# Altium schematic symbol library TEP-AltiumLib-Modules.SCHLIB: 6 symbols
Pins are listed as number, name and electrical type; pins without a type are passive.

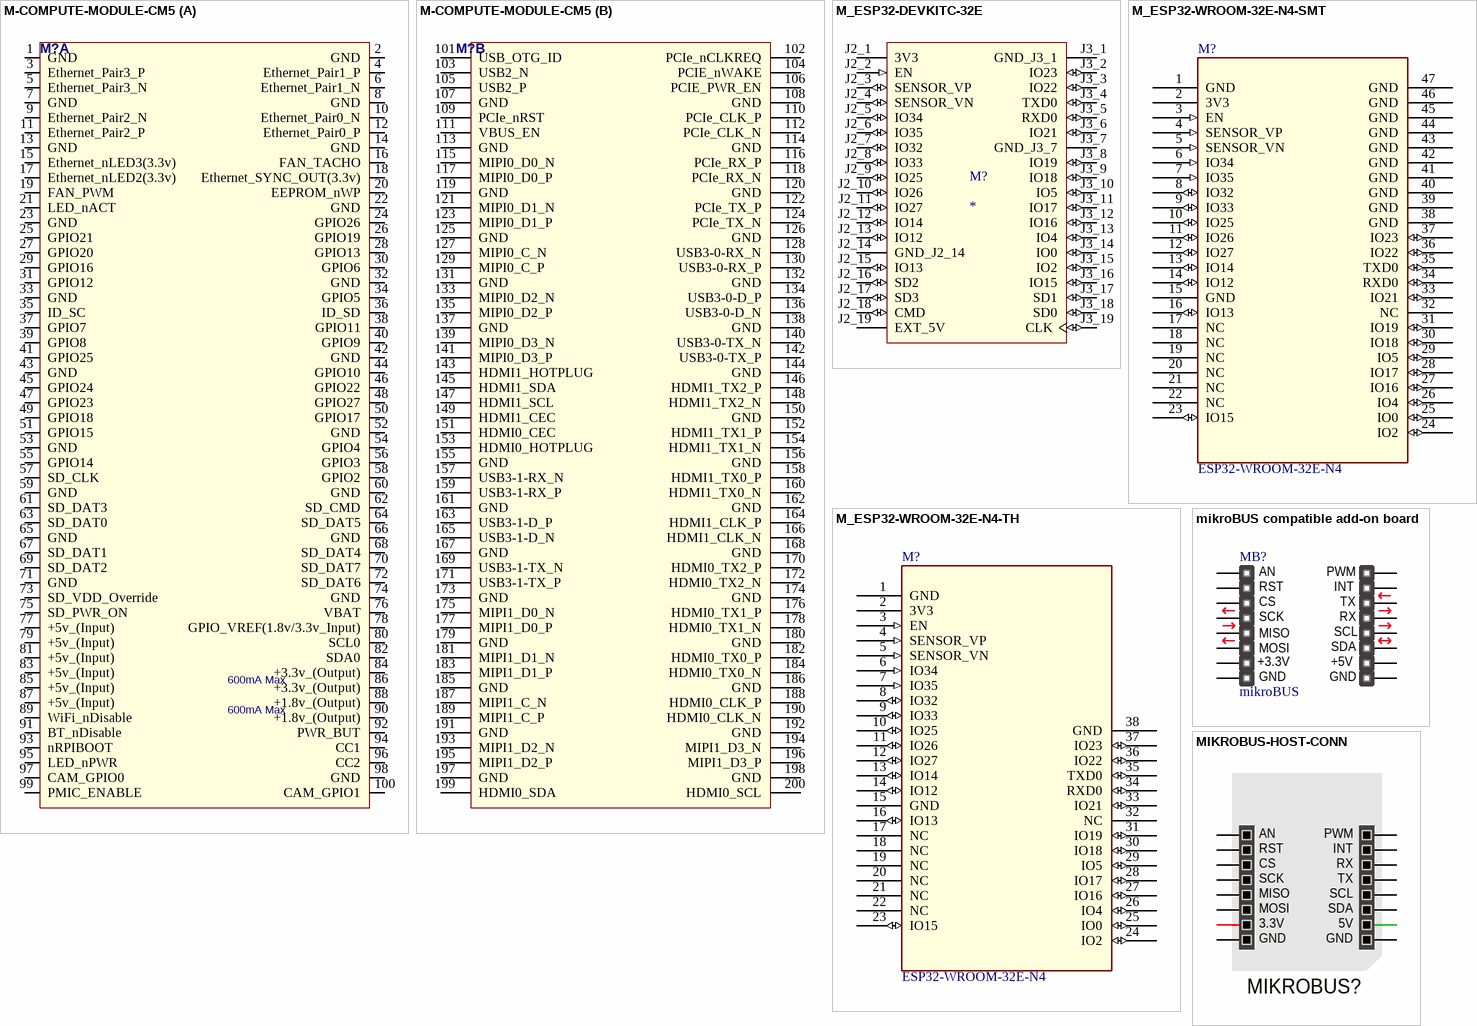
[diagram p0: symbols M-COMPUTE-MODULE-CM5 to MIKROBUS-HOST-CONN]

## M-COMPUTE-MODULE-CM5
designator M?, comment 10164227-1001A1RLF  (value not drawn)
ComputeModule5-CM5; Manufacturer 1: Amphenol; Manufacturer Part Number 1: 10164227-1001A1RLF; Manufacturer 2: Hirose; Manufacturer Part Number 2: DF40C-100DP-0.4V(58); Mounting Technology: SMT; Supplier 1: Digikey; Supplier Part Number 1: 609-10164227-1001A1RLFCT-ND
footprint Raspberry-Pi-5-Compute-Module
part A pins: 1 GND, 2 GND, 3 Ethernet_Pair3_P, 4 Ethernet_Pair1_P, 5 Ethernet_Pair3_N, 6 Ethernet_Pair1_N, 7 GND, 8 GND, 9 Ethernet_Pair2_N, 10 Ethernet_Pair0_N, 11 Ethernet_Pair2_P, 12 Ethernet_Pair0_P, 13 GND, 14 GND, 15 Ethernet_nLED3(3.3v), 16 FAN_TACHO, 17 Ethernet_nLED2(3.3v), 18 Ethernet_SYNC_OUT(3.3v), 19 FAN_PWM, 20 EEPROM_nWP, 21 LED_nACT, 22 GND, 23 GND, 24 GPIO26, 25 GPIO21, 26 GPIO19, 27 GPIO20, 28 GPIO13, 29 GPIO16, 30 GPIO6, 31 GPIO12, 32 GND, 33 GND, 34 GPIO5, 35 ID_SC, 36 ID_SD, 37 GPIO7, 38 GPIO11, 39 GPIO8, 40 GPIO9, 41 GPIO25, 42 GND, 43 GND, 44 GPIO10, 45 GPIO24, 46 GPIO22, 47 GPIO23, 48 GPIO27, 49 GPIO18, 50 GPIO17, 51 GPIO15, 52 GND, 53 GND, 54 GPIO4, 55 GPIO14, 56 GPIO3, 57 SD_CLK, 58 GPIO2, 59 GND, 60 GND, 61 SD_DAT3, 62 SD_CMD, 63 SD_DAT0, 64 SD_DAT5, 65 GND, 66 GND, 67 SD_DAT1, 68 SD_DAT4, 69 SD_DAT2, 70 SD_DAT7, 71 GND, 72 SD_DAT6, 73 SD_VDD_Override, 74 GND, 75 SD_PWR_ON, 76 VBAT, 77 +5v_(Input), 78 GPIO_VREF(1.8v/3.3v_Input), 79 +5v_(Input), 80 SCL0, 81 +5v_(Input), 82 SDA0, 83 +5v_(Input), 84 +3.3v_(Output), 85 +5v_(Input), 86 +3.3v_(Output), 87 +5v_(Input), 88 +1.8v_(Output), 89 WiFi_nDisable, 90 +1.8v_(Output), 91 BT_nDisable, 92 PWR_BUT, 93 nRPIBOOT, 94 CC1, 95 LED_nPWR, 96 CC2, 97 CAM_GPIO0, 98 GND, 99 PMIC_ENABLE, 100 CAM_GPIO1
part B pins: 101 USB_OTG_ID, 102 PCIe_nCLKREQ, 103 USB2_N, 104 PCIE_nWAKE, 105 USB2_P, 106 PCIE_PWR_EN, 107 GND, 108 GND, 109 PCIe_nRST, 110 PCIe_CLK_P, 111 VBUS_EN, 112 PCIe_CLK_N, 113 GND, 114 GND, 115 MIPI0_D0_N, 116 PCIe_RX_P, 117 MIPI0_D0_P, 118 PCIe_RX_N, 119 GND, 120 GND, 121 MIPI0_D1_N, 122 PCIe_TX_P, 123 MIPI0_D1_P, 124 PCIe_TX_N, 125 GND, 126 GND, 127 MIPI0_C_N, 128 USB3-0-RX_N, 129 MIPI0_C_P, 130 USB3-0-RX_P, 131 GND, 132 GND, 133 MIPI0_D2_N, 134 USB3-0-D_P, 135 MIPI0_D2_P, 136 USB3-0-D_N, 137 GND, 138 GND, 139 MIPI0_D3_N, 140 USB3-0-TX_N, 141 MIPI0_D3_P, 142 USB3-0-TX_P, 143 HDMI1_HOTPLUG, 144 GND, 145 HDMI1_SDA, 146 HDMI1_TX2_P, 147 HDMI1_SCL, 148 HDMI1_TX2_N, 149 HDMI1_CEC, 150 GND, 151 HDMI0_CEC, 152 HDMI1_TX1_P, 153 HDMI0_HOTPLUG, 154 HDMI1_TX1_N, 155 GND, 156 GND, 157 USB3-1-RX_N, 158 HDMI1_TX0_P, 159 USB3-1-RX_P, 160 HDMI1_TX0_N, 161 GND, 162 GND, 163 USB3-1-D_P, 164 HDMI1_CLK_P, 165 USB3-1-D_N, 166 HDMI1_CLK_N, 167 GND, 168 GND, 169 USB3-1-TX_N, 170 HDMI0_TX2_P, 171 USB3-1-TX_P, 172 HDMI0_TX2_N, 173 GND, 174 GND, 175 MIPI1_D0_N, 176 HDMI0_TX1_P, 177 MIPI1_D0_P, 178 HDMI0_TX1_N, 179 GND, 180 GND, 181 MIPI1_D1_N, 182 HDMI0_TX0_P, 183 MIPI1_D1_P, 184 HDMI0_TX0_N, 185 GND, 186 GND, 187 MIPI1_C_N, 188 HDMI0_CLK_P, 189 MIPI1_C_P, 190 HDMI0_CLK_N, 191 GND, 192 GND, 193 MIPI1_D2_N, 194 MIPI1_D3_N, 195 MIPI1_D2_P, 196 MIPI1_D3_P, 197 GND, 198 GND, 199 HDMI0_SDA, 200 HDMI0_SCL
part A text: 600mA Max

## M_ESP32-DEVKITC-32E
designator M?
ESP32-DEVKITC-32E evaluation board; Manufacturer 1: Espressif Systems; Value: *; Manufacturer Part Number 1: ESP32-DEVKITC-32E
footprint MODULE_ESP32-DEVKITC-32E
pins: J2_1 3V3 (power), J2_2 EN (in), J2_3 SENSOR_VP (io), J2_4 SENSOR_VN (io), J2_5 IO34 (io), J2_6 IO35 (io), J2_7 IO32 (io), J2_8 IO33 (io), J2_9 IO25 (io), J2_10 IO26 (io), J2_11 IO27 (io), J2_12 IO14 (io), J2_13 IO12 (io), J2_14 GND_J2_14 (power), J2_15 IO13 (io), J2_16 SD2 (io), J2_17 SD3 (io), J2_18 CMD (io), J2_19 EXT_5V (power), J3_1 GND_J3_1 (power), J3_2 IO23 (io), J3_3 IO22 (io), J3_4 TXD0 (io), J3_5 RXD0 (io), J3_6 IO21 (io), J3_7 GND_J3_7 (power), J3_8 IO19 (io), J3_9 IO18 (io), J3_10 IO5 (io), J3_11 IO17 (io), J3_12 IO16 (io), J3_13 IO4 (io), J3_14 IO0 (io), J3_15 IO2 (io), J3_16 IO15 (io), J3_17 SD1 (io), J3_18 SD0 (io), J3_19 CLK (io)

## M_ESP32-WROOM-32E-N4-SMT
designator M?, comment ESP32-WROOM-32E-N4
ESP32 Module TH 50mils; Manufacturer 1: Espressif Systems; Manufacturer Part Number 1: ESP32-WROOM-32E-N4; Mounting Technology: TH; Supplier 1: LCSC; Supplier Part Number 1: C701341
footprint ESP32­WROOM­32E_EXP
pins: 1 GND (power), 2 3V3 (power), 3 EN (in), 4 SENSOR_VP (in), 5 SENSOR_VN (in), 6 IO34 (in), 7 IO35 (in), 8 IO32 (io), 9 IO33 (io), 10 IO25 (io), 11 IO26 (io), 12 IO27 (io), 13 IO14 (io), 14 IO12 (io), 15 GND (power), 16 IO13 (io), 17 NC, 18 NC, 19 NC, 20 NC, 21 NC, 22 NC, 23 IO15 (io), 24 IO2 (io), 25 IO0 (io), 26 IO4 (io), 27 IO16 (io), 28 IO17 (io), 29 IO5 (io), 30 IO18 (io), 31 IO19 (io), 32 NC, 33 IO21 (io), 34 RXD0 (io), 35 TXD0 (io), 36 IO22 (io), 37 IO23 (io), 38 GND (power), 39 GND (power), 40 GND (power), 41 GND (power), 42 GND (power), 43 GND (power), 44 GND (power), 45 GND (power), 46 GND (power), 47 GND (power)

## M_ESP32-WROOM-32E-N4-TH
designator M?, comment ESP32-WROOM-32E-N4
ESP32 Module SMT Castellated; Manufacturer 1: Espressif Systems; Manufacturer Part Number 1: ESP32-WROOM-32E-N4; Mounting Technology: TH; Supplier 1: LCSC; Supplier Part Number 1: C701341
footprint ESP32­WROOM­32E_EXP-TH
pins: 1 GND (power), 2 3V3 (power), 3 EN (in), 4 SENSOR_VP (in), 5 SENSOR_VN (in), 6 IO34 (in), 7 IO35 (in), 8 IO32 (io), 9 IO33 (io), 10 IO25 (io), 11 IO26 (io), 12 IO27 (io), 13 IO14 (io), 14 IO12 (io), 15 GND (power), 16 IO13 (io), 17 NC, 18 NC, 19 NC, 20 NC, 21 NC, 22 NC, 23 IO15 (io), 24 IO2 (io), 25 IO0 (io), 26 IO4 (io), 27 IO16 (io), 28 IO17 (io), 29 IO5 (io), 30 IO18 (io), 31 IO19 (io), 32 NC, 33 IO21 (io), 34 RXD0 (io), 35 TXD0 (io), 36 IO22 (io), 37 IO23 (io), 38 GND (power)

## mikroBUS compatible add-on board
designator MB?, comment mikroBUS  (no BOM)
mikroBUS compatible add-on board
footprint mikroBUS - Large
footprint mikroBUS - Midi
footprint mikroBUS - Mini
pins: 1 AN, 2 RST, 3 CS, 4 SCK, 5 MISO, 6 MOSI, 7 3.3V, 8 GND, 9 GND, 10 5V, 11 SDA, 12 SCL, 13 TX, 14 RX, 15 INT, 16 PWM
text: +3.3V; +5V

## MIKROBUS-HOST-CONN
designator MIKROBUS?, comment MIKROBUS HOST CONN.  (value not drawn)
mikroBUS Host Socket
footprint MIKROBUS HOST CONN. SMD
footprint MIKROBUS HOST CONN. SMD-NO HOLE
footprint MIKROBUS HOST CONN. TH
pins: 1 AN, 2 RST, 3 CS, 4 SCK, 5 MISO, 6 MOSI, 7 3.3V, 8 GND, 9 GND, 10 5V, 11 SDA, 12 SCL, 13 TX, 14 RX, 15 INT, 16 PWM